# EAGLE library part MCP6S22 (library Digikey)
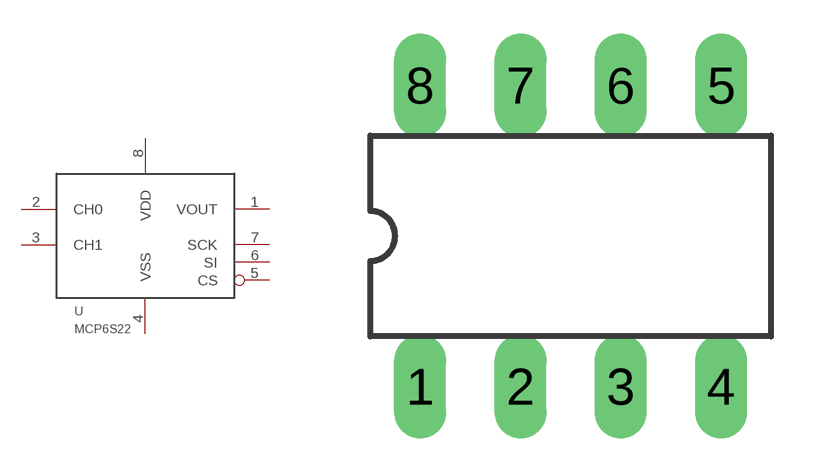
[diagram p0: symbol with the pads of DIL8; footprint DIL8]

Designator prefix -

## MCP6S22  [DIL8]
1  VOUT  out
2  CH0  in
3  CH1  in
4  VSS  pwr
5  CS  in
6  SI  in
7  SCK  in
8  VDD

## Footprint DIL8 (pad centres in mm)
Dual In Line package type P
drill 0.813 long: 1 -3.81,-3.81; 2 -1.27,-3.81; 3 1.27,-3.81; 4 3.81,-3.81; 5 3.81,3.81; 6 1.27,3.81; 7 -1.27,3.81; 8 -3.81,3.81